# EAGLE library part STC3100 (library laforge)
ST STC3100 Battery monitor IC with coulomb counter/gas gauge
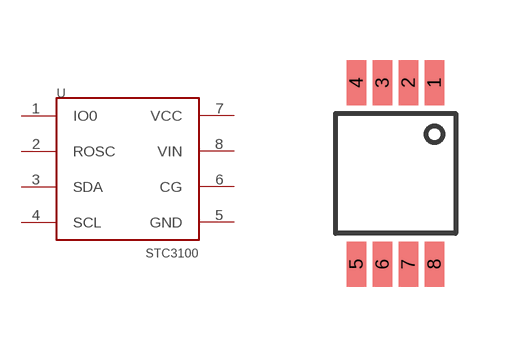
[diagram p32: symbol with the pads of MINISO8; footprint MINISO8]

Designator prefix -

## STC3100 (OC_DIGIKEY: 497-10526-1-ND)  [MINISO8]
1  IO0
2  ROSC  pas
3  SDA
4  SCL  in
5  GND
6  CG
7  VCC
8  VIN  pas

## Footprint MINISO8 (pad centres in mm)
smd 0.48 x 1.13: 1 0.975,2.27; 2 0.325,2.27; 3 -0.325,2.27; 4 -0.975,2.27; 5 -0.975,-2.27; 6 -0.325,-2.27; 7 0.325,-2.27; 8 0.975,-2.27